# Altium footprint library R-1.PcbLib: 1 footprints
Each footprint in its own frame and in the unit in brackets; x right, y up, seen from the top. Pads: shape width x height; smd on the part's side, far side on the other; paste and mask are expansions set on the pad; w line width, h text height; cw(c..) or ccw(c..) is an arc to the next point about the centre after c.
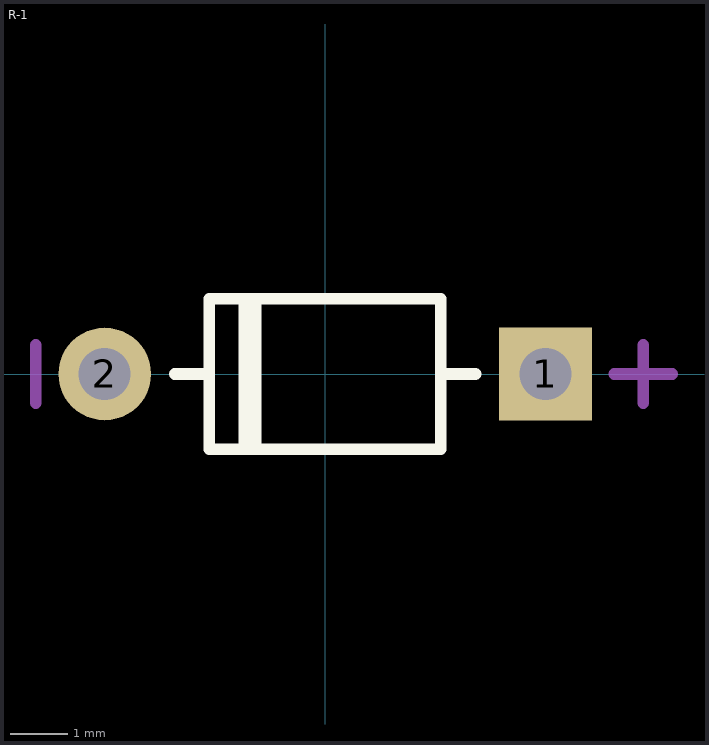
[diagram p0: the footprint, top view; thin cyan lines are the x and y axes]

## R-1 [mm]
pads (2):
  rect 1.6x1.6 hole 0.9: 1(3.81,0)
  round 1.6 hole 0.9: 2(-3.81,0)
Top Overlay:
  lines w0.2: -2.6,0 -2,0 ; -1.4,-1.3 -1.4,1.3 -2,1.3 ; -1.2,-1.3 -1.2,1.3 ; 2,0 2.6,0 ; -2,1.3 2,1.3 2,-1.3 -2,-1.3 -2,1.3
Mechanical 15:
  lines w0.203: -5,-0.5 -5,0.5 ; 5,0 6,0 ; 5.5,-0.5 5.5,0.5